# EAGLE library part 1X14_HEADER (library Railstars)
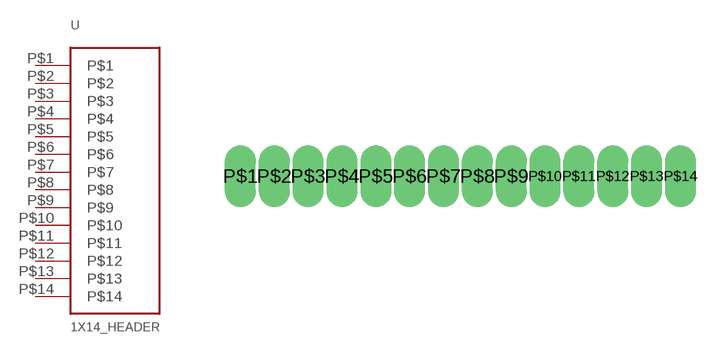
[diagram p41: symbol with the pads of 1X14_1.27MM; footprint 1X14_1.27MM]

Designator prefix -

## 1X14_HEADER  [1X14_1.27MM]
P$1  P$1
P$2  P$2
P$3  P$3
P$4  P$4
P$5  P$5
P$6  P$6
P$7  P$7
P$8  P$8
P$9  P$9
P$10  P$10
P$11  P$11
P$12  P$12
P$13  P$13
P$14  P$14

## Footprint 1X14_1.27MM (pad centres in mm)
drill 0.65 pad 0.9 long: P$1 0,0; P$2 1.27,0; P$3 2.54,0; P$4 3.81,0; P$5 5.08,0; P$6 6.35,0; P$7 7.62,0; P$8 8.89,0; P$9 10.16,0; P$10 11.43,0; P$11 12.7,0; P$12 13.97,0; P$13 15.24,0; P$14 16.51,0